# EAGLE library part ADE7763ARSZ (library ade7763)
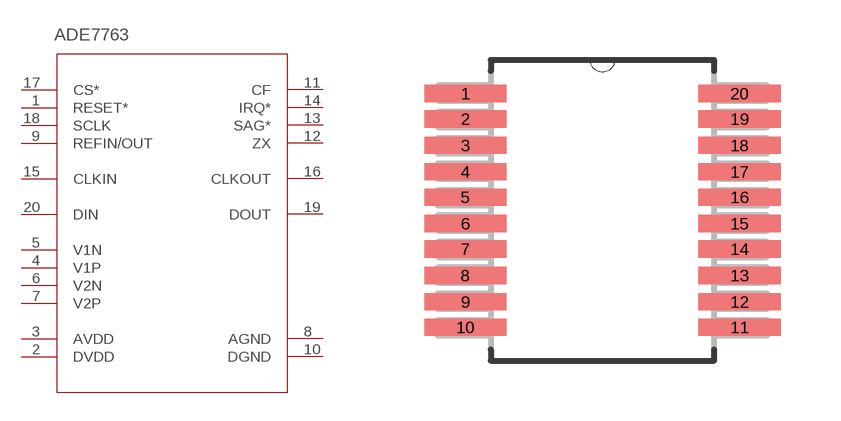
[diagram p0: symbol with the pads of RS_20; footprint RS_20]

Designator prefix U

## ADE7763ARSZ (MANUFACTURER_PART_NUMBER: ADE7763ARSZ; VENDOR: Vendor)  [RS_20]
1  RESET*  pas
2  DVDD  pwr
3  AVDD  pwr
4  V1P  pas
5  V1N  pas
6  V2N  pas
7  V2P  pas
8  AGND  pas
9  REFIN/OUT  pas
10  DGND  pas
11  CF  pas
12  ZX  pas
13  SAG*  pas
14  IRQ*  pas
15  CLKIN  pas
16  CLKOUT  pas
17  CS*  pas
18  SCLK  pas
19  DOUT  pas
20  DIN  pas

## Footprint RS_20 (pad centres in mm)
smd 2.057 x 0.432: 1 -3.429,2.921; 2 -3.429,2.286; 3 -3.429,1.626; 4 -3.429,0.965; 5 -3.429,0.33; 6 -3.429,-0.33; 7 -3.429,-0.965; 8 -3.429,-1.626; 9 -3.429,-2.286; 10 -3.429,-2.921; 11 3.429,-2.921; 12 3.429,-2.286; 13 3.429,-1.626; 14 3.429,-0.965; 15 3.429,-0.33; 16 3.429,0.33; 17 3.429,0.965; 18 3.429,1.626; 19 3.429,2.286; 20 3.429,2.921